# EAGLE library part DSPIC33FJ128MC506-I/PT (library Microchip_By_element14_Batch_1)
DSC, 16BIT, 128KB 40MHZ 3.6V
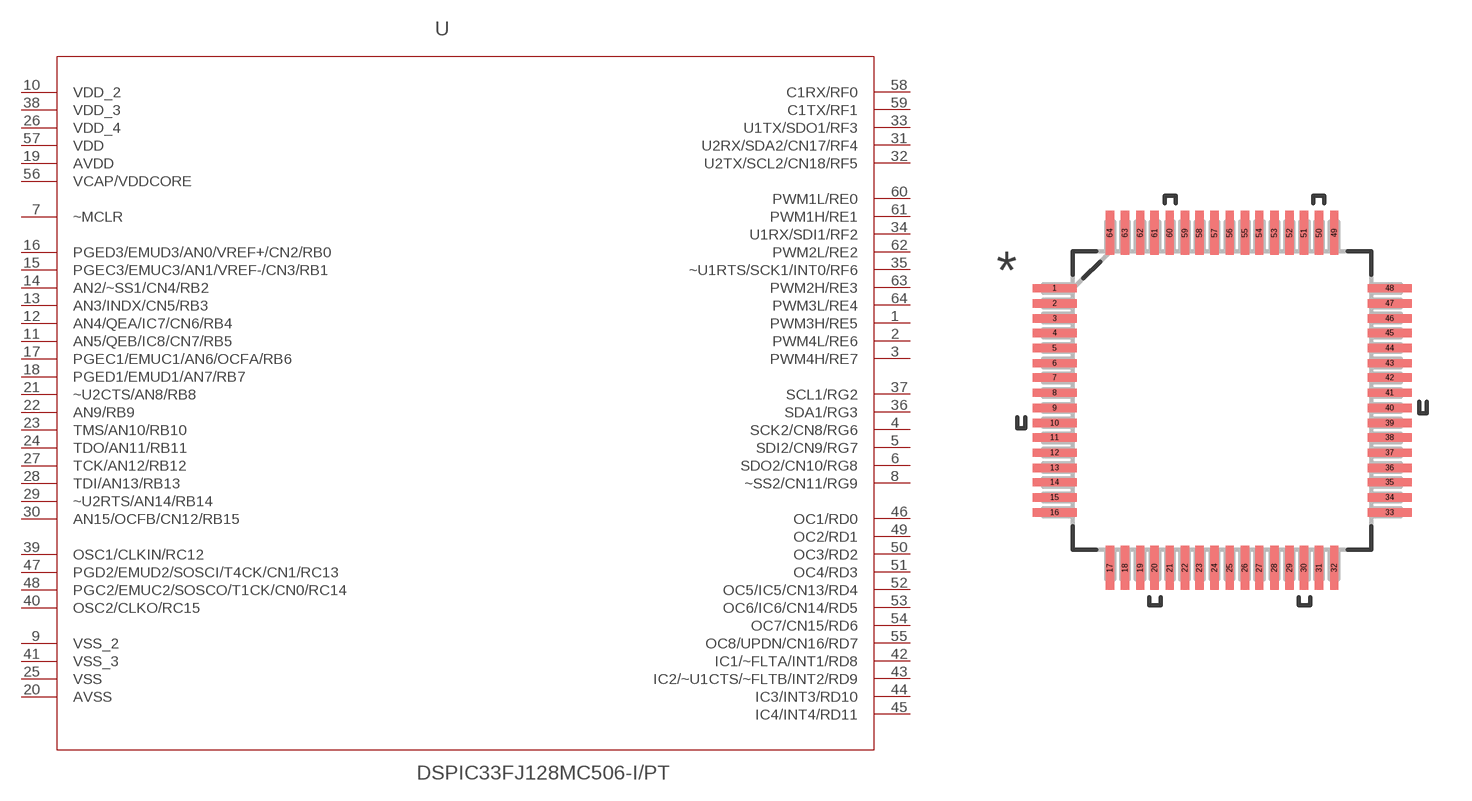
[diagram p357: symbol with the pads of QFP80P1200X1200X120-64N; footprint QFP80P1200X1200X120-64N]

Designator prefix -

## DSPIC33FJ128MC506-I/PT (DESCRIPTION: DSC, 16BIT, 128KB 40MHZ 3.6V; MPN: DSPIC33FJ128MC506-I/PT; OC_FARNELL: 1294839; OC_NEWARK: 56K6739; PACKAGE: TQFP-64; SUPPLIER: Microchip)  [QFP80P1200X1200X120-64N]
1  PWM3H/RE5
2  PWM4L/RE6
3  PWM4H/RE7
4  SCK2/CN8/RG6
5  SDI2/CN9/RG7
6  SDO2/CN10/RG8
7  ~MCLR  in
8  ~SS2/CN11/RG9
9  VSS_2  pwr
10  VDD_2  pwr
11  AN5/QEB/IC8/CN7/RB5
12  AN4/QEA/IC7/CN6/RB4
13  AN3/INDX/CN5/RB3
14  AN2/~SS1/CN4/RB2
15  PGEC3/EMUC3/AN1/VREF-/CN3/RB1
16  PGED3/EMUD3/AN0/VREF+/CN2/RB0
17  PGEC1/EMUC1/AN6/OCFA/RB6
18  PGED1/EMUD1/AN7/RB7
19  AVDD  pwr
20  AVSS  pwr
21  ~U2CTS/AN8/RB8
22  AN9/RB9
23  TMS/AN10/RB10
24  TDO/AN11/RB11
25  VSS  pwr
26  VDD_4  pwr
27  TCK/AN12/RB12
28  TDI/AN13/RB13
29  ~U2RTS/AN14/RB14
30  AN15/OCFB/CN12/RB15
31  U2RX/SDA2/CN17/RF4
32  U2TX/SCL2/CN18/RF5
33  U1TX/SDO1/RF3
34  U1RX/SDI1/RF2
35  ~U1RTS/SCK1/INT0/RF6
36  SDA1/RG3
37  SCL1/RG2
38  VDD_3  pwr
39  OSC1/CLKIN/RC12
40  OSC2/CLKO/RC15
41  VSS_3  pwr
42  IC1/~FLTA/INT1/RD8
43  IC2/~U1CTS/~FLTB/INT2/RD9
44  IC3/INT3/RD10
45  IC4/INT4/RD11
46  OC1/RD0
47  PGD2/EMUD2/SOSCI/T4CK/CN1/RC13
48  PGC2/EMUC2/SOSCO/T1CK/CN0/RC14
49  OC2/RD1
50  OC3/RD2
51  OC4/RD3
52  OC5/IC5/CN13/RD4
53  OC6/IC6/CN14/RD5
54  OC7/CN15/RD6
55  OC8/UPDN/CN16/RD7
56  VCAP/VDDCORE  pwr
57  VDD  pwr
58  C1RX/RF0
59  C1TX/RF1
60  PWM1L/RE0
61  PWM1H/RE1
62  PWM2L/RE2
63  PWM2H/RE3
64  PWM3L/RE4

## Footprint QFP80P1200X1200X120-64N (pad centres in mm)
smd 1.473 x 0.279: 1 -5.613,3.759; 2 -5.613,3.251; 3 -5.613,2.743; 4 -5.613,2.261; 5 -5.613,1.753; 6 -5.613,1.245; 7 -5.613,0.762; 8 -5.613,0.254; 9 -5.613,-0.254; 10 -5.613,-0.762; 11 -5.613,-1.245; 12 -5.613,-1.753; 13 -5.613,-2.261; 14 -5.613,-2.743; 15 -5.613,-3.251; 16 -5.613,-3.759; 33 5.613,-3.759; 34 5.613,-3.251; 35 5.613,-2.743; 36 5.613,-2.261; 37 5.613,-1.753; 38 5.613,-1.245; 39 5.613,-0.762; 40 5.613,-0.254; 41 5.613,0.254; 42 5.613,0.762; 43 5.613,1.245; 44 5.613,1.753; 45 5.613,2.261; 46 5.613,2.743; 47 5.613,3.251; 48 5.613,3.759
smd 0.279 x 1.473: 17 -3.759,-5.613; 18 -3.251,-5.613; 19 -2.743,-5.613; 20 -2.261,-5.613; 21 -1.753,-5.613; 22 -1.245,-5.613; 23 -0.762,-5.613; 24 -0.254,-5.613; 25 0.254,-5.613; 26 0.762,-5.613; 27 1.245,-5.613; 28 1.753,-5.613; 29 2.261,-5.613; 30 2.743,-5.613; 31 3.251,-5.613; 32 3.759,-5.613; 49 3.759,5.613; 50 3.251,5.613; 51 2.743,5.613; 52 2.261,5.613; 53 1.753,5.613; 54 1.245,5.613; 55 0.762,5.613; 56 0.254,5.613; 57 -0.254,5.613; 58 -0.762,5.613; 59 -1.245,5.613; 60 -1.753,5.613; 61 -2.261,5.613; 62 -2.743,5.613; 63 -3.251,5.613; 64 -3.759,5.613